# Altium footprint library Lib_lhy - 副本.PcbLib: 38 footprints (part 1 of 3)
Each footprint in its own frame and in the unit in brackets; x right, y up, seen from the top. Pads: shape width x height; smd on the part's side, far side on the other; paste and mask are expansions set on the pad; w line width, h text height; cw(c..) or ccw(c..) is an arc to the next point about the centre after c.
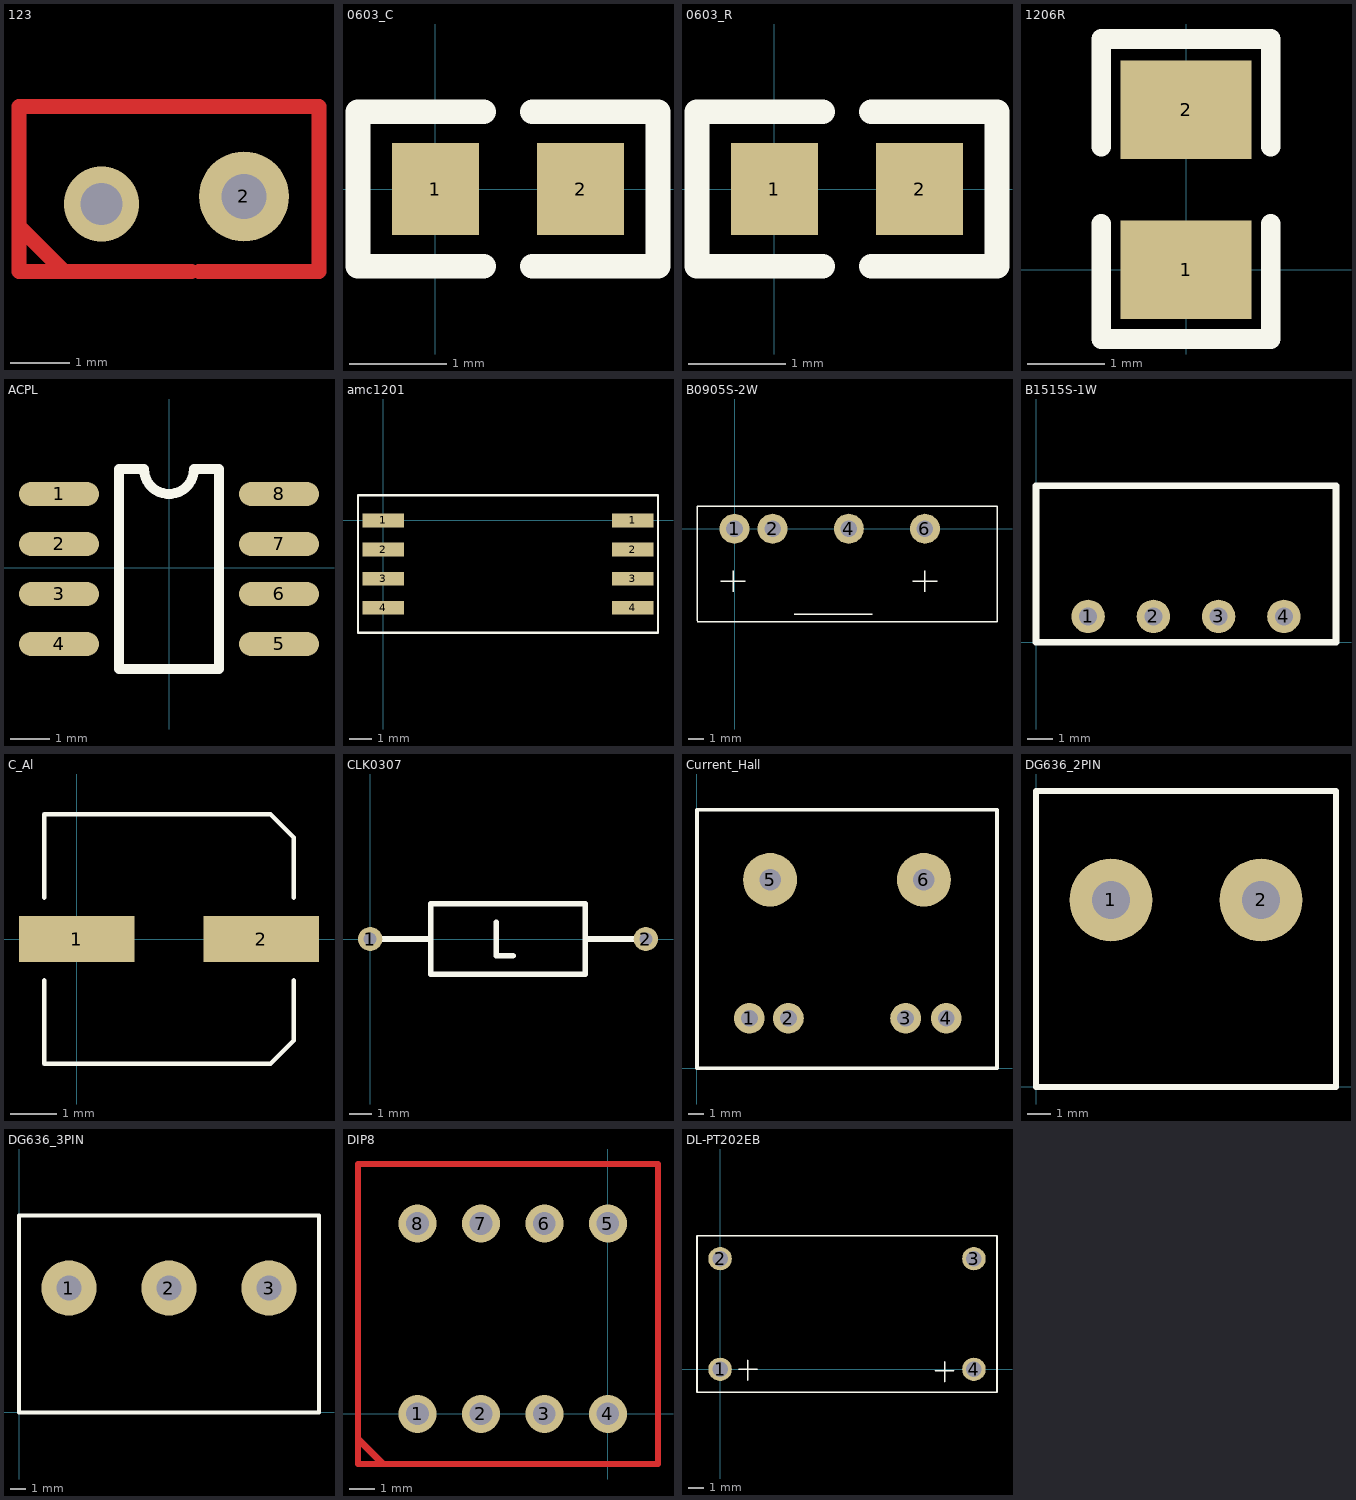
[diagram p0: the footprints below, top view; thin cyan lines are the x and y axes]

## 123 [mil]
pads (1):
  round 60 hole 30: 2(-9760,9470)
via -9855,9465 diameter 50 hole 28
Top Layer:
  lines w10: -9910,9490 -9910,9470 -9910,9460 -9910,9420 -9880,9420 ; -9795,9420 -9880,9420 ; -9790,9420 -9710,9420 -9710,9530 -9910,9530 -9910,9450 -9880,9420

## 0603_C [mm]
pads (2):
  rect 0.9x0.95 smd: 1(0,0) 2(1.5,0)
Top Overlay:
  lines w0.254: 0.5,-0.8 -0.8,-0.8 -0.8,0.8 0.5,0.8 ; 1,-0.8 2.2,-0.8 2.3,-0.8 2.3,0.8 1,0.8

## 0603_R [mm]
pads (2):
  rect 0.9x0.95 smd: 1(0,0) 2(1.5,0)
Top Overlay:
  lines w0.254: 0.5,-0.8 -0.8,-0.8 -0.8,0.8 0.5,0.8 ; 1,-0.8 2.2,-0.8 2.3,-0.8 2.3,0.8 1,0.8

## 1206R [mm]
pads (2):
  rect 1.7x1.28 smd: 1(0,0) 2(0,2.08)
Top Overlay:
  lines w0.254: -1.1,0.6 -1.1,-0.8 -1.1,-0.9 1.1,-0.9 1.1,0.6 ; -1.1,1.6 -1.1,3 1.1,3 1.1,1.6

## ACPL [mil]
pads (8):
  oval 80x24 smd: 1(-110.24,73.62) 2(-110.24,23.62) 3(-110.24,-26.38) 4(-110.24,-76.38) 5(109.76,-76.38) 6(109.76,-26.38) 7(109.76,23.62) 8(109.76,73.62)
Top Overlay:
  lines w10: -50.24,-101.38 49.76,-101.38 49.76,98.62 24.76,98.62 cw(c-0.24,98.62) -25.24,98.62 -50.24,98.62 -50.24,-101.38

## amc1201 [mm]
pads (8):
  rect 1.8x0.6 smd: 1(0,0) 1(10.9,0) 2(0,-1.27) 2(10.9,-1.27) 3(0,-2.54) 3(10.9,-2.54) 4(0,-3.81) 4(10.9,-3.81)
Top Overlay:
  lines w0.1: -1.1,-4.9 12,-4.9 12,1.1 -1.1,1.1 -1.1,-4.9

## B0905S-2W [mm]
pads (4):
  round 2 hole 1.1: 1(0,0) 2(2.54,0) 4(7.62,0) 6(12.7,0)
Top Overlay:
  lines w0.1: -2.5,-6.2 17.5,-6.2 17.5,1.5 -2.5,1.5 -2.5,-6.15 ; -0.9,-3.5 0.7,-3.5 ; -0.1,-4.2 -0.1,-2.8 ; 4,-5.7 9.2,-5.7 ; 11.9,-3.5 13.5,-3.5 ; 12.7,-4.2 12.7,-2.8

## B1515S-1W [mm]
pads (4):
  round 1.3 hole 0.7: 1(2.03,1) 2(4.57,1) 3(7.11,1) 4(9.65,1)
Top Overlay:
  lines w0.254: 0,0 0,6.08 11.68,6.08 11.68,0 0,0

## C_400 [mm]

## C_Al [mm]
pads (2):
  rect 2.5x1 smd: 1(0,0) 2(4,0)
Top Overlay:
  lines w0.1: -0.7,-0.9 -0.7,-2.7 4.2,-2.7 4.7,-2.2 4.7,-1 4.7,-0.9 ; -0.7,0.9 -0.7,2.7 4.2,2.7 ; 4.7,0.9 4.7,2.2 ; 4.2,2.7 4.7,2.2 ; 4.2,2.7 4.7,2.2 ; 4.7,2.2 4.7,2.2

## CLK0307 [mm]
pads (2):
  round 1.1 hole 0.6: 1(0,0) 2(12.5,0)
Top Overlay:
  lines w0.254: 0,0 2.75,0 ; 5.715,0.762 5.715,-0.762 6.477,-0.762 ; 12.5,0 9.75,0 ; 2.75,0 2.75,-1.6 9.75,-1.6 9.75,0 ; 2.75,0 2.75,1.6 9.75,1.6 9.75,0

## Current_Hall [mm]
pads (6):
  round 2 hole 1.1: 1(3.4,3.25) 2(5.94,3.25) 3(13.56,3.25) 4(16.2,3.25)
  round 3.5 hole 1.4: 5(4.75,12.25) 6(14.75,12.25)
Top Overlay:
  lines w0.254: 0,0 0,16.8 19.5,16.8 19.5,0 0,0

## DG636_2PIN [mm]
pads (2):
  round 3.5 hole 1.6: 1(3.17,7.9) 2(9.52,7.9)
Top Overlay:
  lines w0.254: 0,0 12.69,0 12.69,12.5 0,12.5 0,0

## DG636_3PIN [mm]
pads (3):
  round 3.5 hole 1.6: 1(3.17,7.9) 2(9.52,7.9) 3(15.87,7.9)
Top Overlay:
  lines w0.254: 0,0 19.04,0 19.04,12.5 0,12.5 0,0

## DIP8 [mil]
pads (8):
  round 60 hole 35.43: 1(-300,0) 2(-200,0) 3(-100,0) 4(0,0) 5(0,300) 6(-100,300) 7(-200,300) 8(-300,300)
Top Layer:
  lines w10: -393.7,-39.37 -354.33,-78.74 ; -393.7,-78.74 78.74,-78.74 78.74,393.7 -393.7,393.7 -393.7,-78.74

## DL-PT202EB [mm]
pads (4):
  round 1.524 hole 1: 1(0,0) 2(0,7.2) 3(16.5,7.2) 4(16.5,0)
Top Overlay:
  lines w0.1: 1.2,0 2.4,0 ; 1.8,-0.7 1.8,0.6 ; 14,-0.1 15.2,-0.1 ; 14.6,-0.8 14.6,0.5 ; -1.5,-1.5 18,-1.5 18,8.7 -1.5,8.7 -1.5,-1.5